# EAGLE library part PIC16F1825-X_P (library PIC16F1825)
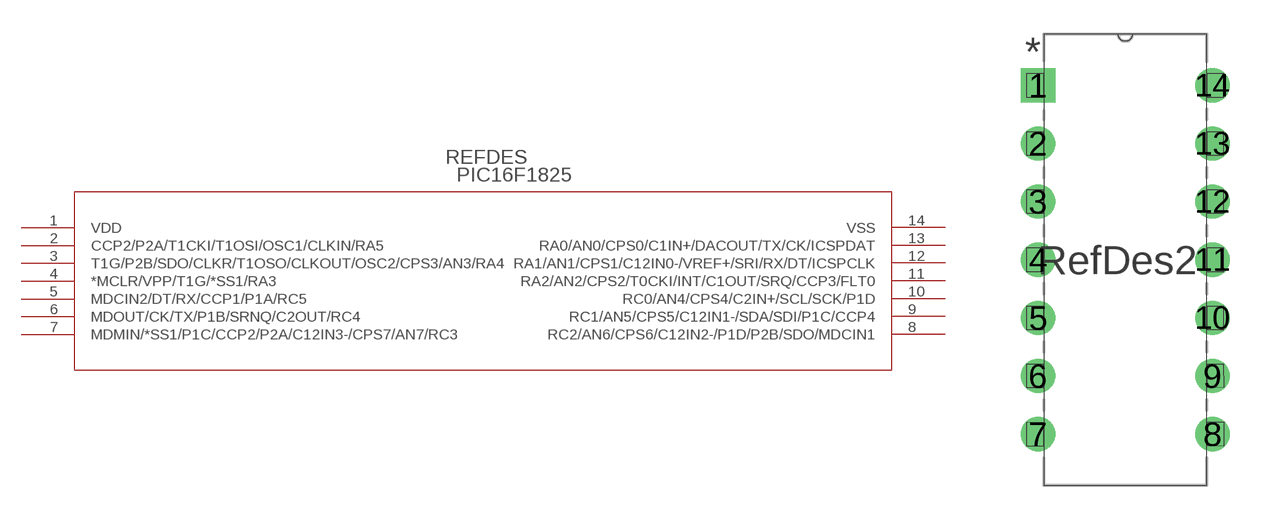
[diagram p0: symbol with the pads of PDIP14_300MC; footprint PDIP14_300MC]

Designator prefix U

## PIC16F1825-X_P  [PDIP14_300MC]
1  VDD  sup
2  CCP2/P2A/T1CKI/T1OSI/OSC1/CLKIN/RA5
3  T1G/P2B/SDO/CLKR/T1OSO/CLKOUT/OSC2/CPS3/AN3/RA4
4  *MCLR/VPP/T1G/*SS1/RA3
5  MDCIN2/DT/RX/CCP1/P1A/RC5
6  MDOUT/CK/TX/P1B/SRNQ/C2OUT/RC4
7  MDMIN/*SS1/P1C/CCP2/P2A/C12IN3-/CPS7/AN7/RC3
8  RC2/AN6/CPS6/C12IN2-/P1D/P2B/SDO/MDCIN1
9  RC1/AN5/CPS5/C12IN1-/SDA/SDI/P1C/CCP4
10  RC0/AN4/CPS4/C2IN+/SCL/SCK/P1D
11  RA2/AN2/CPS2/T0CKI/INT/C1OUT/SRQ/CCP3/FLT0
12  RA1/AN1/CPS1/C12IN0-/VREF+/SRI/RX/DT/ICSPCLK
13  RA0/AN0/CPS0/C1IN+/DACOUT/TX/CK/ICSPDAT
14  VSS  sup

## Footprint PDIP14_300MC (pad centres in mm)
drill 0.991 square: 1 -7.62,15.24
drill 0.991 round: 2 -7.62,12.7; 3 -7.62,10.16; 4 -7.62,7.62; 5 -7.62,5.08; 6 -7.62,2.54; 7 -7.62,0; 8 0,0; 9 0,2.54; 10 0,5.08; 11 0,7.62; 12 0,10.16; 13 0,12.7; 14 0,15.24